# Altium schematic symbol library PcbAssignmentLib.SchLib: 1 symbol
Pins are listed as number, name and electrical type; pins without a type are passive.

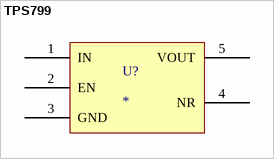
[diagram p0: symbol TPS799]

## TPS799
designator U?
footprint SOT-5
pins: 1 IN, 2 EN, 3 GND, 4 NR, 5 VOUT